# Altium schematic symbol library common.SchLib: 135 symbols
Pins are listed as number, name and electrical type; pins without a type are passive.

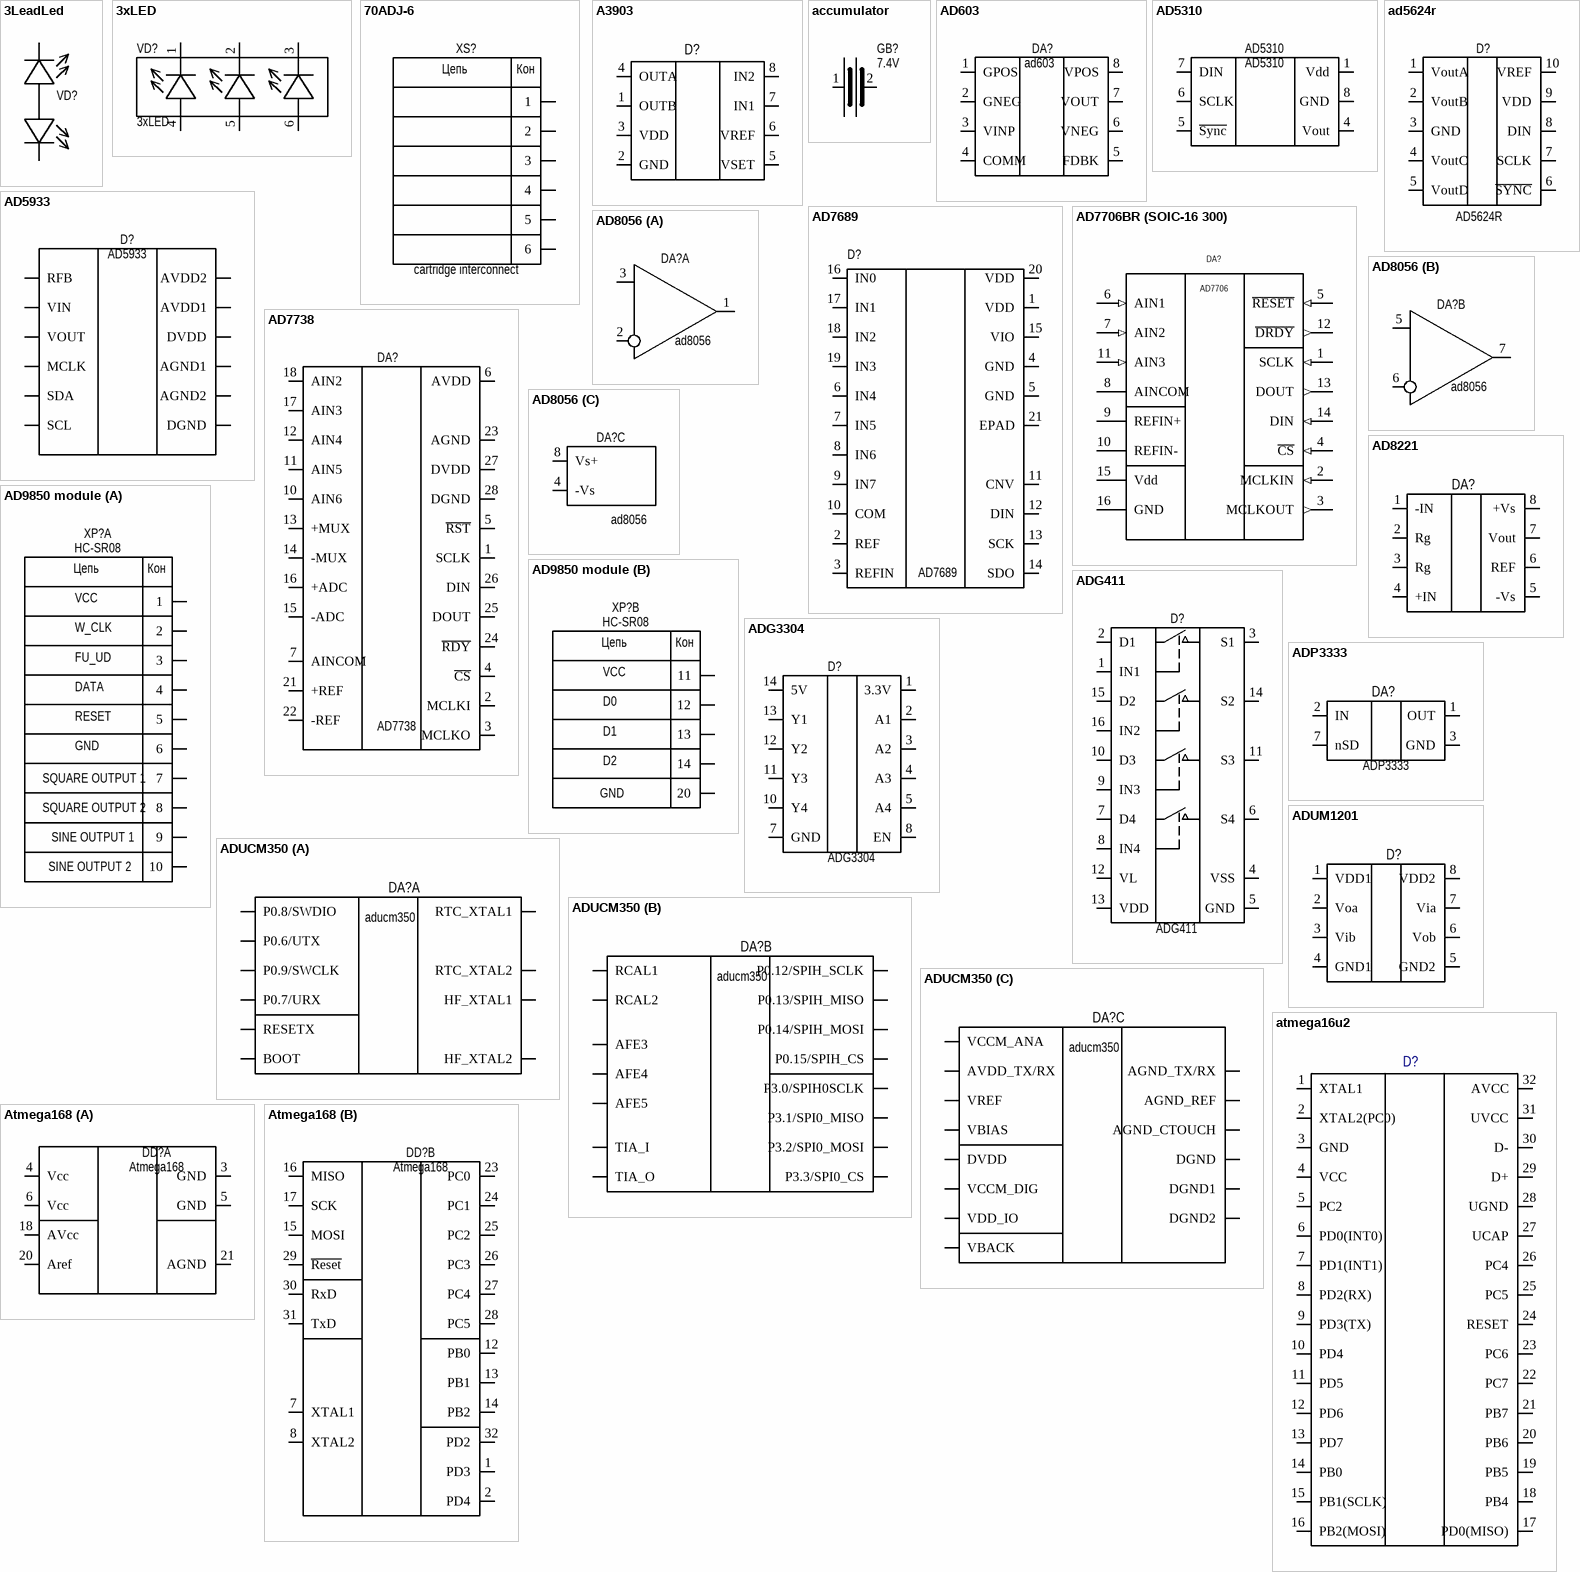
[diagram p0: symbols 3LeadLed to Atmega168]

## 3LeadLed
designator VD?  (value not drawn)
footprint 3-lead light DIODE 2.54 SMD
footprint 3-lead light DIODE 2.54 through
footprint 3-lead light DIODE 2.54 through-R
pins: 1 C1, 2 A, 3 C2

## 3xLED
designator VD?, comment 3хLED
footprint 3xLED
pins: 1, 2, 3, 4, 5, 6

## 70ADJ-6
designator XS?, comment cartridge interconnect
6 pin flat interconnect
footprint 70ADJ-6 (6 pin slider interconnect (smd))
pins: 1, 2, 3, 4, 5, 6
text: Цепь; Кон

## A3903
designator D?  (value not drawn)
footprint DFN8(2X2)
pins: 1 OUTB, 2 GND, 3 VDD, 4 OUTA, 5 VSET, 6 VREF, 7 IN1, 8 IN2

## accumulator
designator GB?, comment 7.4V
footprint LP4022030 (battary 0.4x20x30)
pins: 1 +, 2

## AD603
designator DA?, comment ad603
VCA, +-V supply
footprint SOIC-8 150 (1.3) (SOIC 8 pin 150 mil width 1.3mm pitch)
footprint DIP8
pins: 1 GPOS, 2 GNEG, 3 VINP, 4 COMM, 5 FDBK, 6 VNEG, 7 VOUT, 8 VPOS

## AD5310
designator AD5310
single channel DAC
footprint SOIC-8 118 (.65) (SOIC 8 pin 118 mil width 0.65mm pitch)
pins: 1 Vdd, 4 Vout, 5 ~{Sync}, 6 SCLK, 7 DIN, 8 GND

## ad5624r
designator D?, comment AD5624R
footprint MSOP10
pins: 1 VoutA, 2 VoutB, 3 GND, 4 VoutC, 5 VoutD, 6 ~{SYNC}, 7 SCLK, 8 DIN, 9 VDD, 10 VREF

## AD5933
designator D?
Impedance converter from Analog Devices
footprint SSOP-16 (SSOP 16 pin)
pins: 4 RFB, 5 VIN, 6 VOUT, 8 MCLK, 9 DVDD, 10 AVDD1, 11 AVDD2, 12 DGND, 13 AGND1, 14 AGND2, 15 SDA, 16 SCL

## AD7689
designator D?
footprint QFN-20 (LFCSP_VQ) (QFN-28 with EXPOSED Pad)
pins: 1 VDD, 2 REF, 3 REFIN, 4 GND, 5 GND, 6 IN4, 7 IN5, 8 IN6, 9 IN7, 10 COM, 11 CNV, 12 DIN, 13 SCK, 14 SDO, 15 VIO, 16 IN0, 17 IN1, 18 IN2, 19 IN3, 20 VDD, 21 EPAD

## AD7706BR (SOIC-16 300)
designator DA?  (value not drawn)
Value: *
footprint SOIC-16 300 (1.27)
pins: 1 SCLK (in), 2 MCLKIN (in), 3 MCLKOUT (out), 4 ~{CS} (in), 5 ~{RESET} (in), 6 AIN1 (in), 7 AIN2 (in), 8 AINCOM, 9 REFIN+ (power), 10 REFIN- (power), 11 AIN3 (in), 12 ~{DRDY} (out), 13 DOUT (out), 14 DIN (in), 15 Vdd (power), 16 GND (power)
text: AD7706

## AD7738
designator DA?
footprint TSSOP28 (AD7738)
pins: 1 SCLK, 2 MCLKI, 3 MCLKO, 4 ~{CS}, 5 ~{RST}, 6 AVDD, 7 AINCOM, 10 AIN6, 11 AIN5, 12 AIN4, 13 +MUX, 14 -MUX, 15 -ADC, 16 +ADC, 17 AIN3, 18 AIN2, 21 +REF, 22 -REF, 23 AGND, 24 ~{RDY}, 25 DOUT, 26 DIN, 27 DVDD, 28 DGND

## AD8056
designator DA?, comment ad8056
dual channel opamp, +-V supply
footprint SOIC-8 150 (1.3) (SOIC 8 pin 150 mil width 1.3mm pitch)
footprint DIP8
part A pins: 1 Vout, 2 In-, 3 In+
part B pins: 5 In+, 6 In-, 7 Vout
part C pins: 4 -Vs, 8 Vs+

## AD8221
designator DA?  (value not drawn)
footprint MSOP8
pins: 1 -IN, 2 Rg, 3 Rg, 4 +IN, 5 -Vs, 6 REF, 7 Vout, 8 +Vs

## AD9850 module
designator XP?, comment HC-SR08
DDS ad9850 EImodule
footprint PLS20 for DDS module (10(2.54)_20mm_10(2.54))
part A pins: 1, 2, 3, 4, 5, 6, 7, 8, 9, 10
part B pins: 11, 12, 13, 14, 20
part A text: Цепь; Кон; VCC; W_CLK; FU_UD; DATA; RESET; GND; SQUARE OUTPUT 1; SQUARE OUTPUT 2; SINE OUTPUT 1; SINE OUTPUT 2
part B text: Цепь; Кон; VCC; D0; D1; D2; GND

## ADG411
designator D?
footprint soic 16
pins: 1 IN1, 2 D1, 3 S1, 4 VSS, 5 GND, 6 S4, 7 D4, 8 IN4, 9 IN3, 10 D3, 11 S3, 12 VL, 13 VDD, 14 S2, 15 D2, 16 IN2

## ADG3304
designator D?
footprint TSSOP14 (ADG3304)
pins: 1 3.3V, 2 A1, 3 A2, 4 A3, 5 A4, 7 GND, 8 EN, 10 Y4, 11 Y3, 12 Y2, 13 Y1, 14 5V

## ADP3333
designator DA?
footprint MSOP8
pins: 1 OUT, 2 IN, 3 GND, 7 nSD

## ADUCM350
designator DA?, comment aducm350
footprint BGA120
part A pins: C1 HF_XTAL2, D1 HF_XTAL1, H1 P0.8/SWDIO, H2 P0.9/SWCLK, J1 P0.6/UTX, J2 P0.7/URX, K8 RESETX, N1 RTC_XTAL2, N2 BOOT, P1 RTC_XTAL1
part B pins: F10 P3.3/SPI0_CS, F14 P3.0/SPIH0SCLK, F15 P3.2/SPI0_MOSI, G14 P3.1/SPI0_MISO, M2 P0.15/SPIH_CS, P2 P0.13/SPIH_MISO, P3 P0.14/SPIH_MOSI, P5 RCAL1, P7 AFE4, P11 TIA_I, R3 P0.12/SPIH_SCLK, R5 RCAL2, R7 AFE3, R8 AFE5, R11 TIA_O
part C pins: F7 DGND2, G6 DGND1, H6 VCCM_DIG, H14 DGND, H15 VDD_IO, K1 DVDD, K9 AGND_TX/RX, K10 AGND_REF, M1 VBACK, P4 VCCM_ANA, P10 VBIAS, P14 AGND_CTOUCH, R4 AVDD_TX/RX, R10 VREF

## ADUM1201
designator D?  (value not drawn)
footprint SOIC-8 150 (1.3) (SOIC 8 pin 150 mil width 1.3mm pitch)
pins: 1 VDD1, 2 Voa, 3 Vib, 4 GND1, 5 GND2, 6 Vob, 7 Via, 8 VDD2

## atmega16u2
designator D?  (value not drawn)
footprint TQFP-32
pins: 1 XTAL1, 2 XTAL2(PC0), 3 GND, 4 VCC, 5 PC2, 6 PD0(INT0), 7 PD1(INT1), 8 PD2(RX), 9 PD3(TX), 10 PD4, 11 PD5, 12 PD6, 13 PD7, 14 PB0, 15 PB1(SCLK), 16 PB2(MOSI), 17 PD0(MISO), 18 PB4, 19 PB5, 20 PB6, 21 PB7, 22 PC7, 23 PC6, 24 RESET, 25 PC5, 26 PC4, 27 UCAP, 28 UGND, 29 D+, 30 D-, 31 UVCC, 32 AVCC

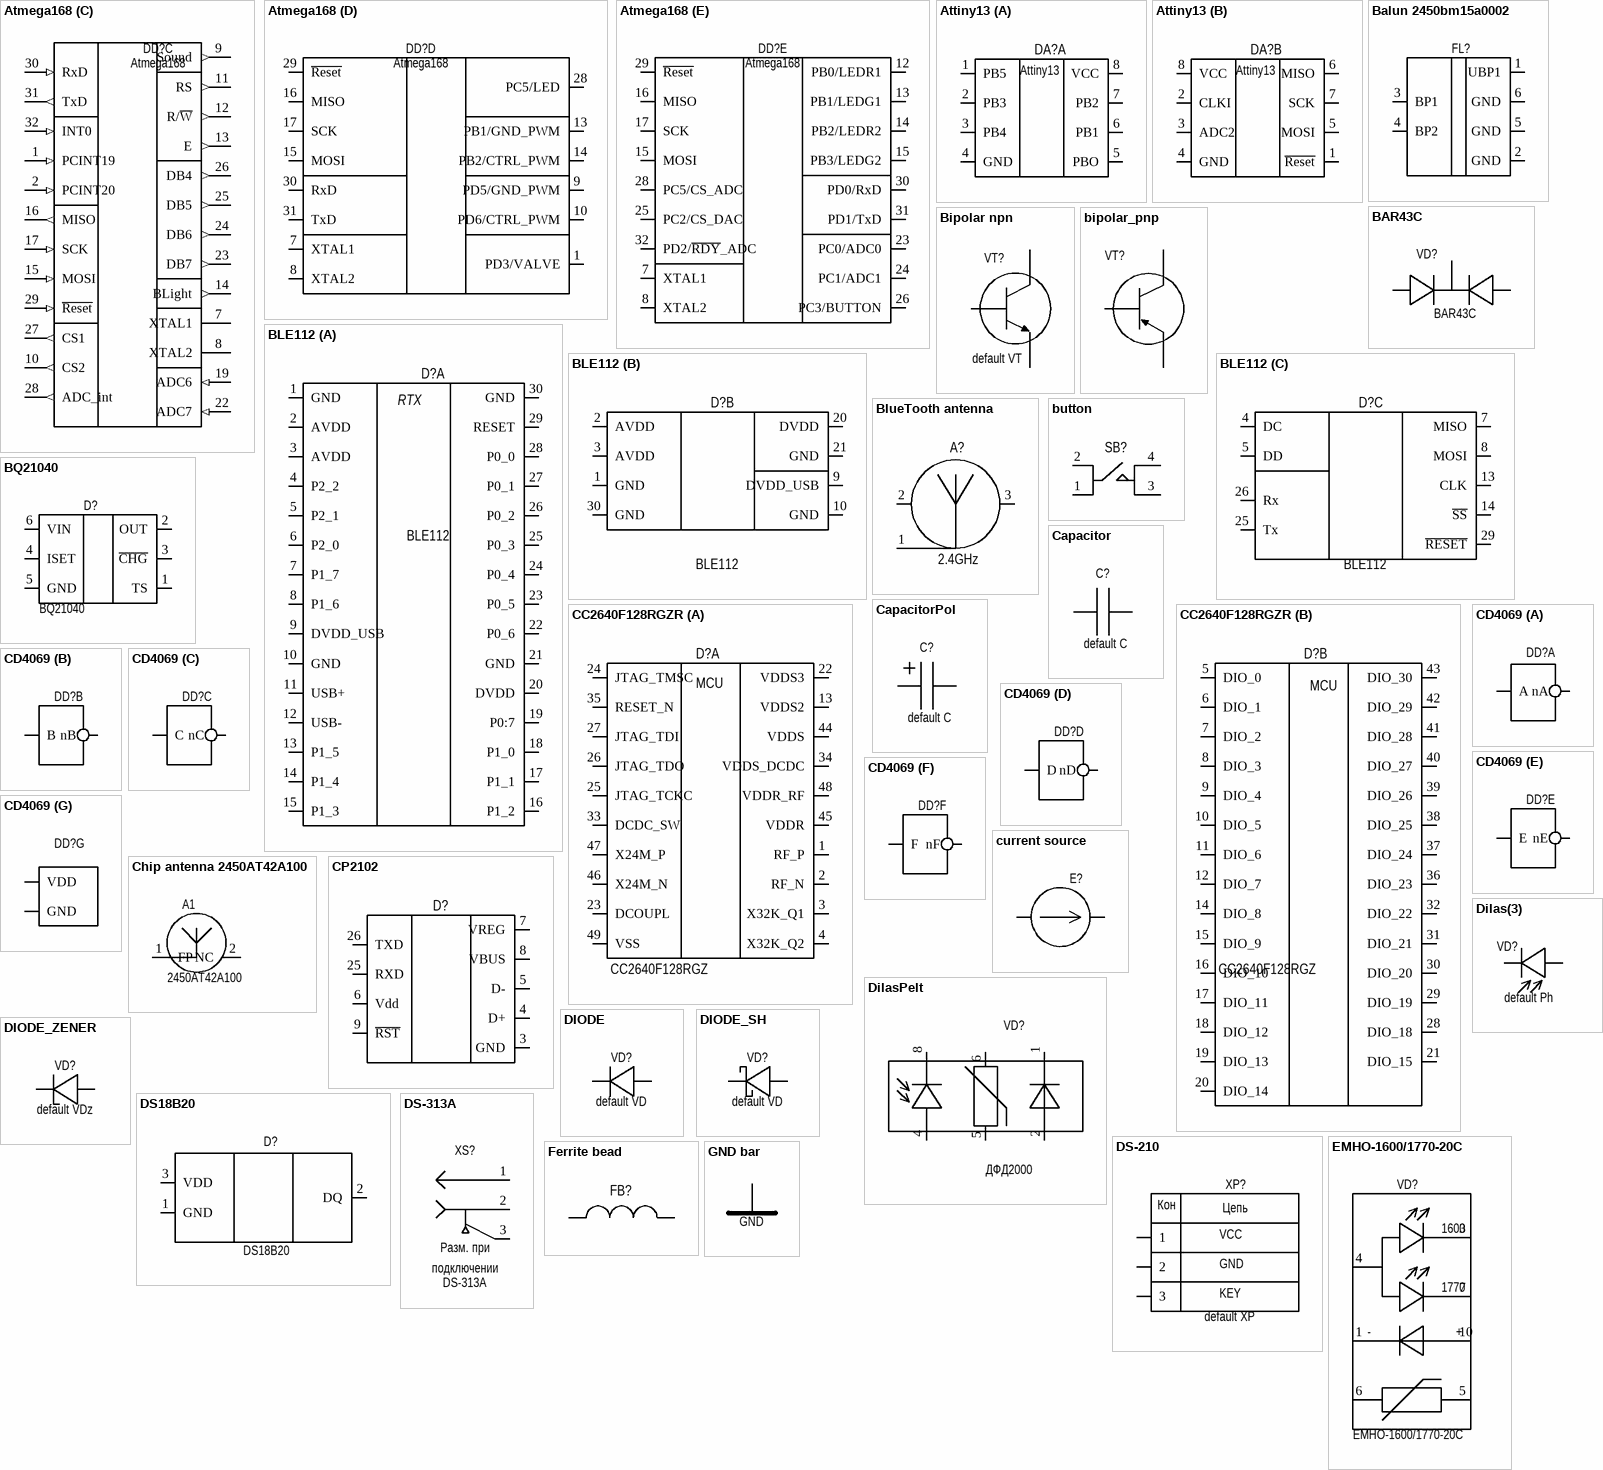
[diagram p1: symbols Atmega168 to GND bar]

## Atmega168
designator DD?
32 pin atmeca controller
footprint TQFP-32
part A pins: 3 GND, 4 Vcc, 5 GND, 6 Vcc, 18 AVcc, 20 Aref, 21 AGND
part B pins: 1 PD3, 2 PD4, 7 XTAL1, 8 XTAL2, 12 PB0, 13 PB1, 14 PB2, 15 MOSI, 16 MISO, 17 SCK, 23 PC0, 24 PC1, 25 PC2, 26 PC3, 27 PC4, 28 PC5, 29 ~{Reset}, 30 RxD, 31 TxD, 32 PD2
part C pins: 1 PCINT19 (in), 2 PCINT20 (in), 7 XTAL1, 8 XTAL2, 9 Sound (out), 10 CS2 (out), 11 RS (out), 12 R/~{W} (out), 13 E (out), 14 BLight (out), 15 MOSI (in), 16 MISO (out), 17 SCK (in), 19 ADC6 (in), 22 ADC7 (in), 23 DB7 (out), 24 DB6 (out), 25 DB5 (out), 26 DB4 (out), 27 CS1 (out), 28 ADC_int (out), 29 ~{Reset} (in), 30 RxD (in), 31 TxD (out), 32 INT0 (in)
part D pins: 1 PD3/VALVE, 7 XTAL1, 8 XTAL2, 9 PD5/GND_PWM, 10 PD6/CTRL_PWM, 13 PB1/GND_PWM, 14 PB2/CTRL_PWM, 15 MOSI, 16 MISO, 17 SCK, 28 PC5/LED, 29 ~{Reset}, 30 RxD, 31 TxD
part E pins: 7 XTAL1, 8 XTAL2, 12 PB0/LEDR1, 13 PB1/LEDG1, 14 PB2/LEDR2, 15 MOSI, 15 PB3/LEDG2, 16 MISO, 17 SCK, 23 PC0/ADC0, 24 PC1/ADC1, 25 PC2/CS_DAC, 26 PC3/BUTTON, 28 PC5/CS_ADC, 29 ~{Reset}, 30 PD0/RxD, 31 PD1/TxD, 32 PD2/~{RDY}_ADC

## Attiny13
designator DA?
footprint SOIC-8 150 (1.3) (SOIC 8 pin 150 mil width 1.3mm pitch)
part A pins: 1 PB5, 2 PB3, 3 PB4, 4 GND, 5 PBO, 6 PB1, 7 PB2, 8 VCC
part B pins: 1 ~{Reset}, 2 CLKI, 3 ADC2, 4 GND, 5 MOSI, 6 MISO, 7 SCK, 8 VCC

## Balun 2450bm15a0002
designator FL?  (value not drawn)
footprint 2450bm15a0002
pins: 1 UBP1, 2 GND, 3 BP1, 4 BP2, 5 GND, 6 GND

## BAR43C
designator VD?
footprint SOT-23
pins: 1, 2, 3

## Bipolar npn
designator VT?, comment default VT
npn bjt
footprint SOT-23
footprint SOT54
pins: 1, 2, 3

## bipolar_pnp
designator VT?  (value not drawn)
footprint SOT-23
footprint SOT54
footprint SOT-23
pins: 1, 2, 3

## BLE112
designator D?
footprint BLE112
part A pins: 1 GND, 2 AVDD, 3 AVDD, 4 P2_2, 5 P2_1, 6 P2_0, 7 P1_7, 8 P1_6, 9 DVDD_USB, 10 GND, 11 USB+, 12 USB-, 13 P1_5, 14 P1_4, 15 P1_3, 16 P1_2, 17 P1_1, 18 P1_0, 19 P0:7, 20 DVDD, 21 GND, 22 P0_6, 23 P0_5, 24 P0_4, 25 P0_3, 26 P0_2, 27 P0_1, 28 P0_0, 29 RESET, 30 GND
part B pins: 1 GND, 2 AVDD, 3 AVDD, 9 DVDD_USB, 10 GND, 20 DVDD, 21 GND, 30 GND
part C pins: 4 DC, 5 DD, 7 MISO, 8 MOSI, 13 CLK, 14 ~{SS}, 25 Tx, 26 Rx, 29 ~{RESET}
part A text: RTX

## BlueTooth antenna
designator A?, comment 2.4GHz
footprint PCB antenna BLE
pins: 1, 2, 3

## BQ21040
designator D?
Battary charger
footprint SOT-23-6L
pins: 1 TS, 2 OUT, 3 ~{CHG}, 4 ISET, 5 GND, 6 VIN

## button
designator SB?  (value not drawn)
footprint button smd
footprint TS-030 4x4x2 smd
pins: 1, 2, 3, 4

## Capacitor
designator C?, comment default C
footprint PLS2 (Footprint not found)
footprint 0805
footprint 0603
pins: 1, 2

## CapacitorPol
designator C?, comment default C
footprint C_Acase
footprint C_Dcase
footprint C_Bcase
footprint C_Ccase
footprint C_Pcase
pins: 1, 2

## CC2640F128RGZR
designator D?, comment CC2640F128RGZ
footprint S_PVQFN_N48_7_7
part A pins: 1 RF_P, 2 RF_N, 3 X32K_Q1, 4 X32K_Q2, 13 VDDS2, 22 VDDS3, 23 DCOUPL, 24 JTAG_TMSC, 25 JTAG_TCKC, 26 JTAG_TDO, 27 JTAG_TDI, 33 DCDC_SW, 34 VDDS_DCDC, 35 RESET_N, 44 VDDS, 45 VDDR, 46 X24M_N, 47 X24M_P, 48 VDDR_RF, 49 VSS
part B pins: 5 DIO_0, 6 DIO_1, 7 DIO_2, 8 DIO_3, 9 DIO_4, 10 DIO_5, 11 DIO_6, 12 DIO_7, 14 DIO_8, 15 DIO_9, 16 DIO_10, 17 DIO_11, 18 DIO_12, 19 DIO_13, 20 DIO_14, 21 DIO_15, 28 DIO_18, 29 DIO_19, 30 DIO_20, 31 DIO_21, 32 DIO_22, 36 DIO_23, 37 DIO_24, 38 DIO_25, 39 DIO_26, 40 DIO_27, 41 DIO_28, 42 DIO_29, 43 DIO_30
part A text: MCU
part B text: MCU

## CD4069
designator DD?  (value not drawn)
invertor
footprint SOIC-14
part A pins: 1 A, 2 nA 
part B pins: 3 B, 4 nB 
part C pins: 5 C, 6 nC 
part D pins: 8 nD , 9 D
part E pins: 10 nE , 11 E
part F pins: 12 nF , 13 F
part G pins: 7 GND, 14 VDD

## Chip antenna 2450AT42A100
designator A1, comment 2450AT42A100
footprint 2450AT42A100
pins: 1 FP, 2 NC

## CP2102
designator D?  (value not drawn)
USB to UART bridge
footprint QFN-28 PP (QFN-28 with Power Pad)
pins: 3 GND, 4 D+, 5 D-, 6 Vdd, 7 VREG, 8 VBUS, 9 ~{RST}, 25 RXD, 26 TXD

## current source
designator E?  (value not drawn)
pins: 1, 2

## Dilas(3)
designator VD?, comment default Ph
footprint TO-18
pins: 1, 2

## DilasPelt
designator VD?, comment ДФД2000
footprint PLD-8
footprint TO-5
pins: 1 N, 2 P, 4 A, 5, 6, 8 C

## DIODE
designator VD?, comment default VD
footprint Diode_through 12_5 (12.5mm through)
footprint Diode_through 10 (10mm through)
footprint sod-123
footprint SOD-323
footprint 0603
footprint 0805
footprint SOD-523
footprint DO-214AC
footprint DIODE MBRM120LT
pins: 1, 2

## DIODE_SH
designator VD?, comment default VD
footprint sod-123
footprint SMA DO 214AC
footprint SOD-323
pins: 1, 2

## DIODE_ZENER
designator VD?, comment default VDz
pins: 0, 1

## DS18B20
designator D?
termometer
footprint TO-92
pins: 1 GND, 2 DQ, 3 VDD

## DS-210
designator XP?, comment default XP
footprint DS-210 2,1x5 (Разъём питания)
pins: 1, 2, 3
text: Кон; Цепь; VCC; GND; KEY

## DS-313A
designator XS?
Value: *
footprint DS-313A
pins: 1, 2, 3
text: Разм. при; подключении

## EMHO-1600/1770-20C
designator VD?
2 walve laser diode
footprint PLS-10
pins: 1 TEC -, 3 1600 Cathode (-), 4 Laser Anode, 5 Thetmistor 2, 6 Thermistor 1, 7 1700 Cathode(-), 10 TEC +
text: 1600; 1770; -; +

## Ferrite bead
designator FB?  (value not drawn)
footprint C_0805
pins: 1, 2

## GND bar
designator GND, comment GND bar (net label required)  (value not drawn)  (graphical)
pins: 1

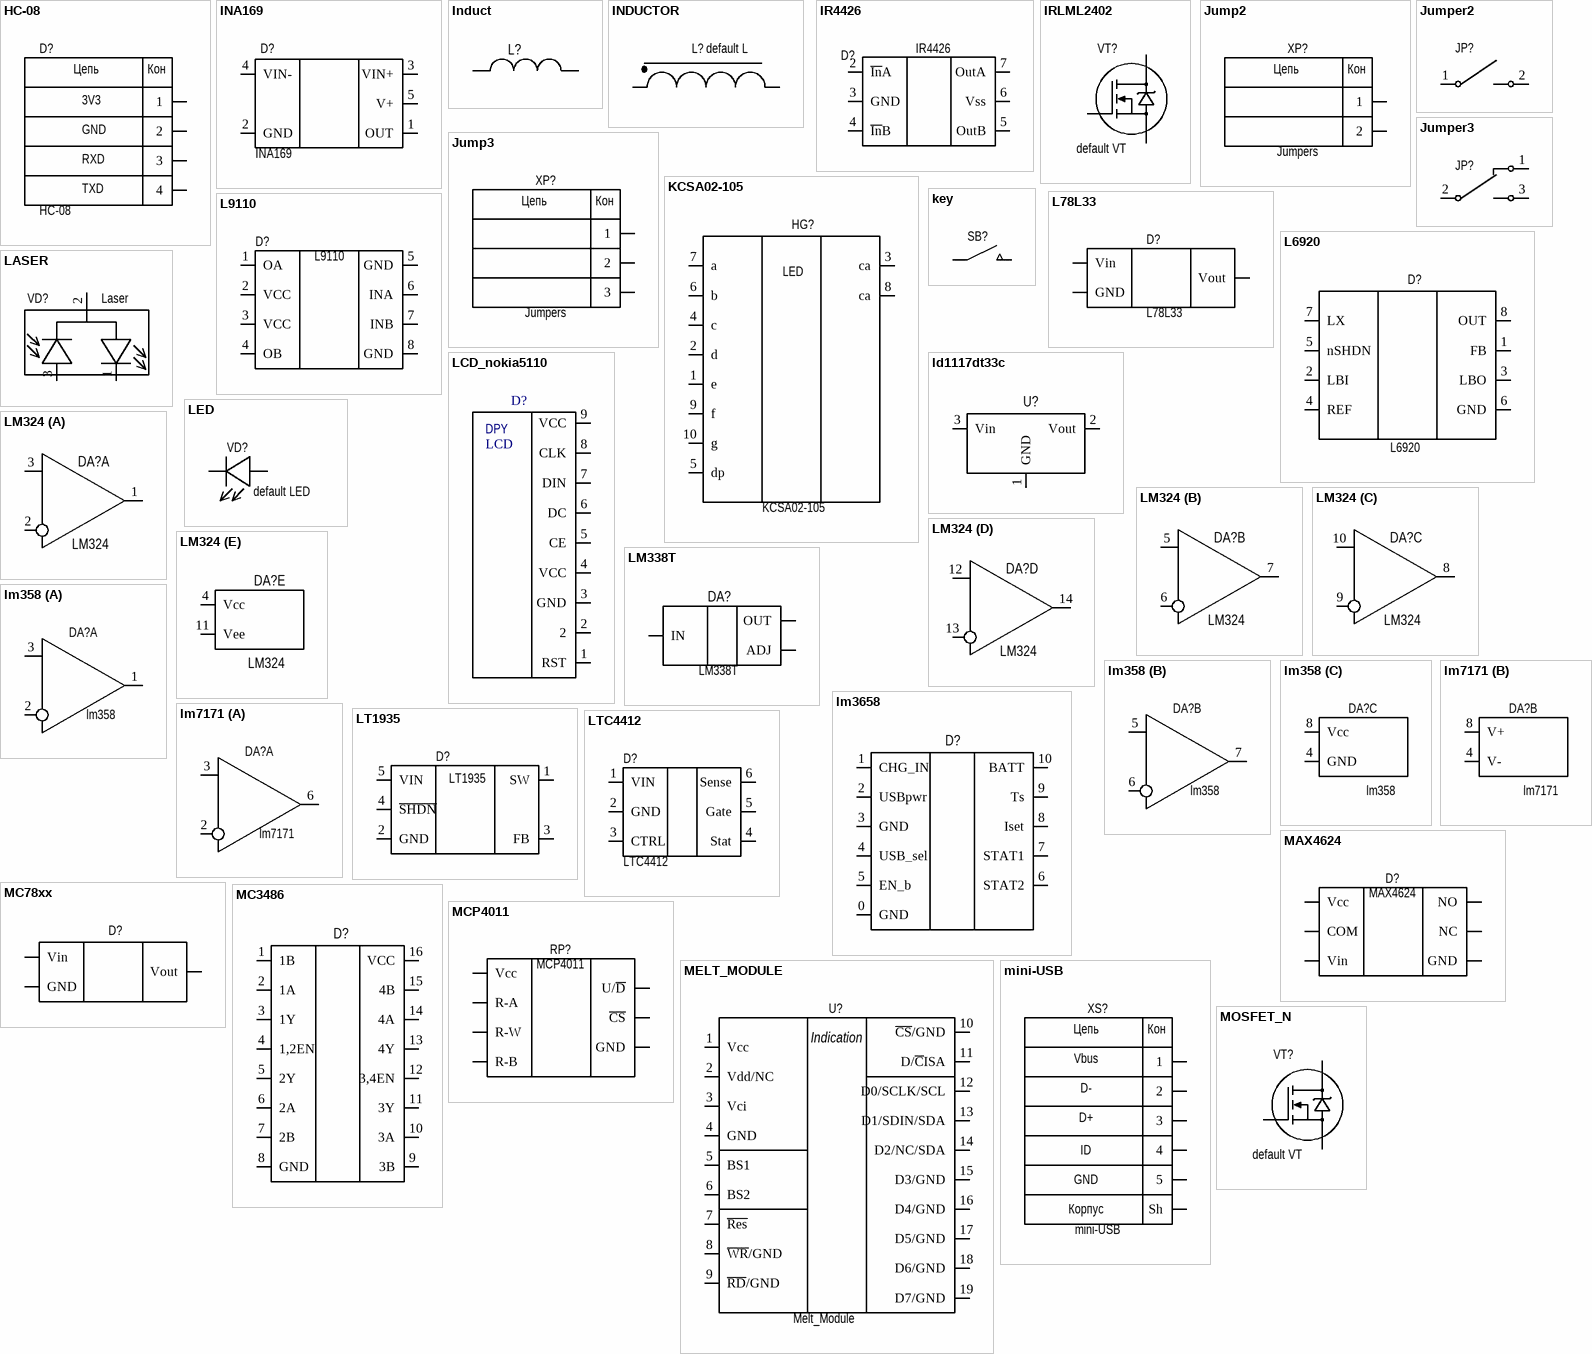
[diagram p2: symbols HC-08 to MOSFET_N]

## HC-08
designator D?
footprint HC-08
pins: 1, 2, 3, 4
text: Цепь; Кон; 3V3; GND; RXD; TXD

## INA169
designator D?
footprint SOT-23-5
pins: 1 OUT, 2 GND, 3 VIN+, 4 VIN-, 5 V+

## Induct
designator L?  (value not drawn)
footprint 0805
footprint 1206
pins: 1, 2

## INDUCTOR
designator L?, comment default L
footprint SRR0603LO (Inductor footprint)
footprint 0805
footprint CDRH4D18C
footprint CDRH4D18
footprint 1212
pins: 1, 2

## IR4426
designator D?
Драйвер нижнего плеча
footprint SOIC-8 150 (1.3) (SOIC 8 pin 150 mil width 1.3mm pitch)
pins: 2 ~{In}A, 3 GND, 4 ~{In}B, 5 OutB, 6 Vss, 7 OutA

## IRLML2402
designator VT?, comment default VT
n-chanel mosfet
pins: 0 gate, 1 source, 2 drain

## Jump2
designator XP?, comment Jumpers
jumper-connected links
footprint PLS2
pins: 1, 2
text: Цепь; Кон

## Jump3
designator XP?, comment Jumpers
jumper-connected links
footprint pls-3 (3 pin pls row)
footprint jumper3-smd
pins: 1, 2, 3
text: Цепь; Кон

## Jumper2
designator JP?, comment jumper  (value not drawn)
footprint 0805
pins: 1, 2

## Jumper3
designator JP?, comment jumper  (value not drawn)
footprint jumper3-smd
pins: 1, 2, 3

## KCSA02-105
designator HG?
indicator_7+1+1
footprint Indicator_7+1(KCSA02-105) (Footprint not found)
pins: 1 e, 2 d, 3 ca, 4 c, 5 dp, 6 b, 7 a, 8 ca, 9 f, 10 g
text: LED

## key
designator SB?, comment default SB  (value not drawn)
footprint button
footprint button smd
pins: 1, 2

## L78L33
designator D?
footprint SOT89
pins: 1 Vout, 2 GND, 3 Vin

## L6920
designator D?
DC-DC
footprint TSSOP8 (Dc-dc L6920)
pins: 1 FB, 2 LBI, 3 LBO, 4 REF, 5 nSHDN, 6 GND, 7 LX, 8 OUT

## L9110
designator D?
footprint SOIC-8 150 (1.3) (SOIC 8 pin 150 mil width 1.3mm pitch)
pins: 1 OA, 2 VCC, 3 VCC, 4 OB, 5 GND, 6 INA, 7 INB, 8 GND

## LASER
designator VD?, comment Laser
footprint pls-3 (3 pin pls row)
footprint TO(SOT-148) (LTD-1600-30-SM)
footprint TO-18
pins: 1 CTRL, 2 PWR, 3 BACK

## LCD_nokia5110
designator D?  (value not drawn)
footprint LCD_nokia5110
pins: 1 RST, 2, 3 GND, 4 VCC, 5 CE, 6 DC, 7 DIN, 8 CLK, 9 VCC
text: DPY; LCD

## ld1117dt33c
designator U?  (value not drawn)
footprint SOT-223
pins: 1 GND, 2 Vout, 3 Vin

## LED
designator VD?, comment default LED
footprint Diode_0805 (Diode pattern 0805 (leds, etc))
footprint LED
footprint TO-18
footprint LED0805 (LED pattern 0805)
footprint TO-18no3D
pins: 1, 2

## LM324
designator DA?
footprint SOIC-14
part A pins: 1 Vout, 2 In-, 3 In+
part B pins: 5 In+, 6 In-, 7 out
part C pins: 8 Vout, 9 In-, 10 In+
part D pins: 12 In+, 13 In-, 14 Vout
part E pins: 4 Vcc, 11 Vee

## LM338T
designator DA?
footprint TO-92 (Footprint not found)
pins: 1 ADJ, 2 IN, 3 OUT

## lm358
designator DA?
dual channel general puprose opamp
footprint SOIC-8 150 (1.3) (SOIC 8 pin 150 mil width 1.3mm pitch)
footprint DIP8
part A pins: 1 Vout, 2 In-, 3 In+
part B pins: 5 In+, 6 In-, 7 Vout
part C pins: 4 GND, 8 Vcc

## lm3658
designator D?  (value not drawn)
footprint WSON 10
pins: 0 GND, 1 CHG_IN, 2 USBpwr, 3 GND, 4 USB_sel, 5 EN_b, 6 STAT2, 7 STAT1, 8 Iset, 9 Ts, 10 BATT

## lm7171
designator DA?
high-speed ampl
footprint SOIC-8 150 (1.3) (SOIC 8 pin 150 mil width 1.3mm pitch)
footprint DIP8
part A pins: 2 In-, 3 In+, 6 Vout
part B pins: 4 V-, 8 V+

## LT1935
designator D?
DC-DC Boost
footprint SOT-23-5
pins: 1 SW, 2 GND, 3 FB, 4 ~{SHDN}, 5 VIN

## LTC4412
designator D?
Power switchover
footprint SOT-23-6L
pins: 1 VIN, 2 GND, 3 CTRL, 4 Stat, 5 Gate, 6 Sense

## MAX4624
designator D?
analog switch SPDT
footprint SOT-23-6L
pins: 1 Vin, 2 Vcc, 3 GND, 4 NC, 5 COM, 6 NO

## MC78xx
designator D?, comment default 78xx  (value not drawn)
linear voltage regulator
footprint D-PAK (TO-252)
footprint SOT89
pins: 1 Vin, 2 GND, 3 Vout

## MC3486
designator D?  (value not drawn)
footprint soic 16
pins: 1 1B, 2 1A, 3 1Y, 4 1,2EN, 5 2Y, 6 2A, 7 2B, 8 GND, 9 3B, 10 3A, 11 3Y, 12 3,4EN, 13 4Y, 14 4A, 15 4B, 16 VCC

## MCP4011
designator RP?
Digital Potentiometer
footprint SOIC-8 150 (1.3) (SOIC 8 pin 150 mil width 1.3mm pitch)
pins: 1 Vcc, 2 GND, 3 R-A, 4 R-W, 5 ~{CS}, 6 R-B, 8 U/~{D}

## MELT_MODULE
designator U?, comment Melt_Module
footprint Screen module MELT SMD (SMD LCD module)
pins: 1 Vcc, 2 Vdd/NC, 3 Vci, 4 GND, 5 BS1, 6 BS2, 7 ~{Res}, 8 ~{WR}/GND, 9 ~{RD}/GND, 10 ~{CS}/GND, 11 D/~{C}ISA, 12 D0/SCLK/SCL, 13 D1/SDIN/SDA, 14 D2/NC/SDA, 15 D3/GND, 16 D4/GND, 17 D5/GND, 18 D6/GND, 19 D7/GND
text: Indication

## mini-USB
designator XS?
mini-USB 2 female
footprint mini USB (mini USB 2)
pins: 1, 2, 3, 4, 5, 6 Sh
text: Цепь; Кон; Vbus; D-; D+; ID; GND; Корпус

## MOSFET_N
designator VT?, comment default VT
n-chanel mosfet
footprint SOT-223
footprint SOT-23
pins: 1, 2, 3

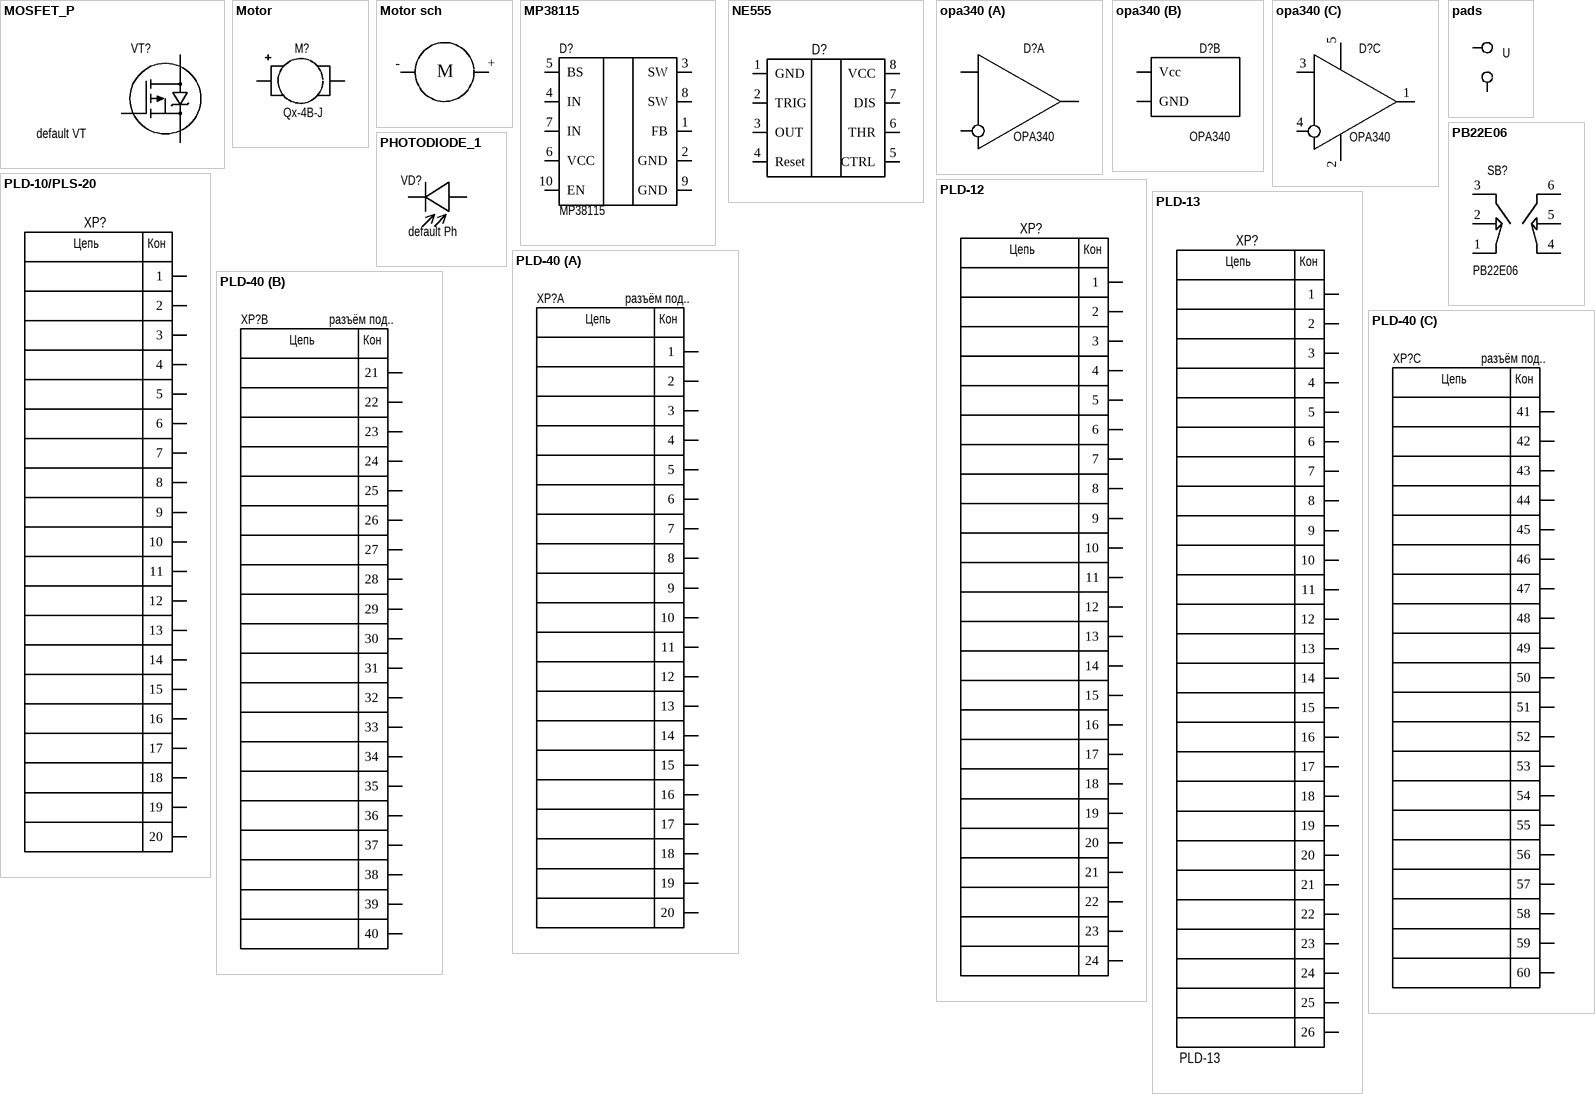
[diagram p3: symbols MOSFET_P to PLD-40]

## MOSFET_P
designator VT?, comment default VT
n-chanel mosfet
footprint SOT-223
footprint SOT-23
pins: 1, 2, 3

## Motor
designator M?, comment Qx-4B-J
footprint QX-4B-J-3V
pins: 1 +, 2 -

## Motor sch
designator *  (value not drawn)
pins: +, -
text: M

## MP38115
designator D?
footprint QFN-10 (QFN-10 with EXPOSED Pad)
pins: 1 FB, 2 GND, 3 SW, 4 IN, 5 BS, 6 VCC, 7 IN, 8 SW, 9 GND, 10 EN

## NE555
designator D?, comment default D  (value not drawn)
single bipolar timer
footprint DIP8
footprint SOIC-8 150 (1.27)
footprint SOIC-8 150 (1.3) (SOIC 8 pin 150 mil width 1.3mm pitch)
pins: 1 GND, 2 TRIG, 3 OUT, 4 Reset, 5 CTRL, 6 THR, 7 DIS, 8 VCC

## opa340
designator D?, comment OPA340
rail-to-rail 5MHz opamp
footprint SOT-23-5
part A pins: 1 Vout, 3 In+, 4 In-
part B pins: 2 GND, 5 Vcc
part C pins: 1 Vout, 2 GND, 3 In+, 4 In-, 5 VDD

## pads
designator *, comment U
pins: 1, 2

## PB22E06
designator SB?
pins: 1, 2, 3, 4, 5, 6

## PHOTODIODE_1
designator VD?, comment default Ph
footprint TO-5
footprint 1206
footprint 0603
footprint TO-18
pins: 1, 2

## PLD-10/PLS-20
designator XP?  (value not drawn)
footprint PLD-10
pins: 1, 2, 3, 4, 5, 6, 7, 8, 9, 10, 11, 12, 13, 14, 15, 16, 17, 18, 19, 20
text: Цепь; Кон

## PLD-12
designator XP?  (value not drawn)
footprint PLD-12
pins: 1, 2, 3, 4, 5, 6, 7, 8, 9, 10, 11, 12, 13, 14, 15, 16, 17, 18, 19, 20, 21, 22, 23, 24
text: Цепь; Кон

## PLD-13
designator XP?
footprint PLD-13
pins: 1, 2, 3, 4, 5, 6, 7, 8, 9, 10, 11, 12, 13, 14, 15, 16, 17, 18, 19, 20, 21, 22, 23, 24, 25, 26
text: Цепь; Кон

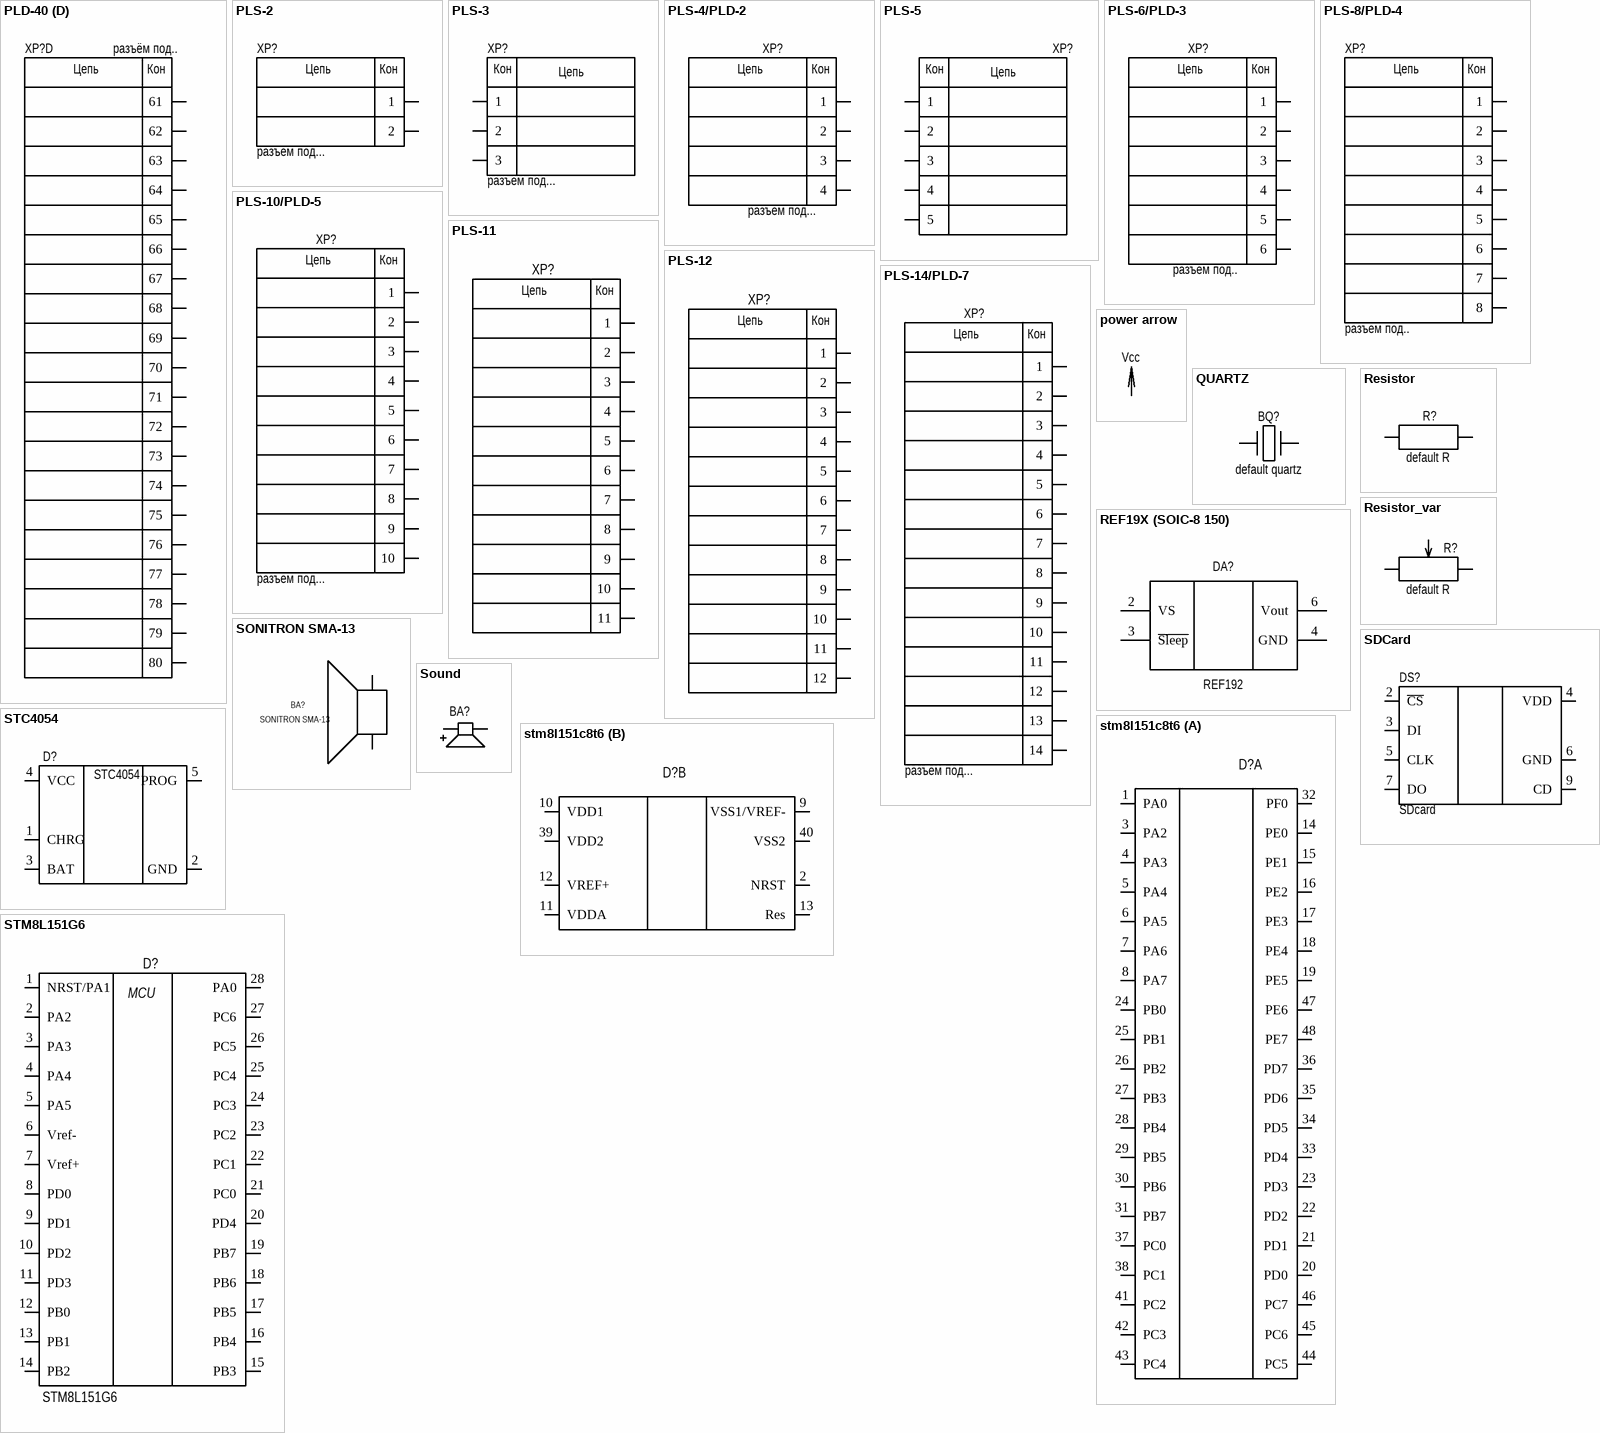
[diagram p4: symbols PLD-40 to STM8L151G6]

## PLD-40
designator XP?, comment разъём под..
footprint PLD-40UP (boards connector)
part A pins: 1, 2, 3, 4, 5, 6, 7, 8, 9, 10, 11, 12, 13, 14, 15, 16, 17, 18, 19, 20
part B pins: 21, 22, 23, 24, 25, 26, 27, 28, 29, 30, 31, 32, 33, 34, 35, 36, 37, 38, 39, 40
part C pins: 41, 42, 43, 44, 45, 46, 47, 48, 49, 50, 51, 52, 53, 54, 55, 56, 57, 58, 59, 60
part D pins: 61, 62, 63, 64, 65, 66, 67, 68, 69, 70, 71, 72, 73, 74, 75, 76, 77, 78, 79, 80
part A text: Цепь; Кон
part B text: Цепь; Кон
part C text: Цепь; Кон
part D text: Цепь; Кон

## PLS-2
designator XP?, comment разъем под...
footprint PLS-2R
footprint PLS-2
footprint PLS-2UP (for PLS-2)
footprint CR2032 Holder
footprint CR2032 Holder (no mount)
footprint PL331223V (battary)
footprint LP4022030 (battary 0.4x20x30)
pins: 1, 2
text: Цепь; Кон

## PLS-3
designator XP?, comment разъем под...
footprint pls-3 (3 pin pls row)
footprint PLS-3UP (for PLS-3)
footprint PLS-3UPsmall (for PLS-3)
pins: 1, 2, 3
text: Кон; Цепь

## PLS-4/PLD-2
designator XP?, comment разъем под...
footprint PLS-4
footprint PLS-4R
footprint PLD-2
footprint PLS-4noSilk
footprint CI1104S00
footprint PLS-4UP-small (for PLS-4)
footprint PLS-4UP (4)
footprint PLS-4UP (2x3) (for pls-4)
footprint PLS-4 (no 3d)
pins: 1, 2, 3, 4
text: Цепь; Кон

## PLS-5
designator XP?, comment разъем ..  (value not drawn)
footprint 5-leads for Keypad (foe foil-keypad)
footprint 5 leads foe Cable
footprint 5 leads for Cable (moved)
footprint 5 leads for Cable only 3d (moved)
footprint 5LEADS Laser
footprint PLS-5
footprint PLS(D)-5
pins: 1, 2, 3, 4, 5
text: Кон; Цепь

## PLS-6/PLD-3
designator XP?, comment разъем под..
footprint PLS-6
footprint PLS-6R
footprint pld-3 (3 pin pls row)
footprint PLD-3UP (for PLD-3)
footprint 6-leads for Keypad (foe foil-keypad)
footprint PLL-6
footprint PLS-2-6
pins: 1, 2, 3, 4, 5, 6
text: Цепь; Кон

## PLS-8/PLD-4
designator XP?, comment разъем под..
footprint PLD-4
footprint PLD-4UP (for PLD-4)
footprint 08fmz-st (for foil-keypad)
footprint PLD-2-4
footprint PLS-8
pins: 1, 2, 3, 4, 5, 6, 7, 8
text: Цепь; Кон

## PLS-10/PLD-5
designator XP?, comment разъем под...
footprint PLS-10
footprint PLD-5UP
footprint PLS-10noSilk
footprint PLD-5
footprint PLD2-5
footprint PLLD-1.27-10UP (boards connector)
pins: 1, 2, 3, 4, 5, 6, 7, 8, 9, 10
text: Цепь; Кон

## PLS-11
designator XP?  (value not drawn)
PLS-11
footprint PLS-11
pins: 1, 2, 3, 4, 5, 6, 7, 8, 9, 10, 11
text: Цепь; Кон

## PLS-12
designator XP?  (value not drawn)
PLS-12
footprint PLS-12
footprint PLS-12n3d
pins: 1, 2, 3, 4, 5, 6, 7, 8, 9, 10, 11, 12
text: Цепь; Кон

## PLS-14/PLD-7
designator XP?, comment разъем под...
footprint PLD-7
pins: 1, 2, 3, 4, 5, 6, 7, 8, 9, 10, 11, 12, 13, 14
text: Цепь; Кон

## power arrow
designator Vcc, comment power arrow (net label required)  (value not drawn)  (graphical)
pins: 1

## QUARTZ
designator BQ?, comment default quartz
footprint Quartz 12.3x4.5x4.2 (SMD quartz resonator)
footprint quartz - through (SMD quartz resonator)
footprint QUARTZ_watch (32.768 resonator package)
pins: 1, 2

## REF19X (SOIC-8 150)
designator DA?, comment REF192
Value: *
footprint SOIC-8 150 (1.27)
footprint SOIC-8 150 (1.3) (SOIC 8 pin 150 mil width 1.3mm pitch)
pins: 1 hidden, 2 VS, 3 ~{Sleep}, 4 GND, 5 hidden, 6 Vout, 7 hidden, 8 hidden

## Resistor
designator R?, comment default R
footprint Resistor_through (10mm through)
footprint 0402
footprint Resistor_through_pow (30mm through)
footprint 1206
footprint 0603
footprint 0805
pins: 1, 2

## Resistor_var
designator R?, comment default R
variable resistor
footprint R_var_pv36 (potentiometer type pv36)
pins: 1, 2, 3

## SDCard
designator DS?, comment SDcard
footprint 112J-TDAR-R01 (Разъём для SD карт)
pins: 2 ~{CS}, 3 DI, 4 VDD, 5 CLK, 6 GND, 7 DO, 9 CD

## SONITRON SMA-13
designator BA?
Value: *
footprint SONITRON SMA-13
pins: 1, 2

## Sound
designator BA?  (value not drawn)
footprint JL World HC0903A (Излучатель звука (JL World HC0903A))
pins: 1 +, 2 -

## STC4054
designator D?
Battery charger
footprint SOT-23-5
pins: 1 CHRG, 2 GND, 3 BAT, 4 VCC, 5 PROG

## stm8l151c8t6
designator D?  (value not drawn)
footprint LQFP48
part A pins: 1 PA0, 3 PA2, 4 PA3, 5 PA4, 6 PA5, 7 PA6, 8 PA7, 14 PE0, 15 PE1, 16 PE2, 17 PE3, 18 PE4, 19 PE5, 20 PD0, 21 PD1, 22 PD2, 23 PD3, 24 PB0, 25 PB1, 26 PB2, 27 PB3, 28 PB4, 29 PB5, 30 PB6, 31 PB7, 32 PF0, 33 PD4, 34 PD5, 35 PD6, 36 PD7, 37 PC0, 38 PC1, 41 PC2, 42 PC3, 43 PC4, 44 PC5, 45 PC6, 46 PC7, 47 PE6, 48 PE7
part B pins: 2 NRST, 9 VSS1/VREF-, 10 VDD1, 11 VDDA, 12 VREF+, 13 Res, 39 VDD2, 40 VSS2

## STM8L151G6
designator D?
footprint UFQFPN28
pins: 1 NRST/PA1, 2 PA2, 3 PA3, 4 PA4, 5 PA5, 6 Vref-, 7 Vref+, 8 PD0, 9 PD1, 10 PD2, 11 PD3, 12 PB0, 13 PB1, 14 PB2, 15 PB3, 16 PB4, 17 PB5, 18 PB6, 19 PB7, 20 PD4, 21 PC0, 22 PC1, 23 PC2, 24 PC3, 25 PC4, 26 PC5, 27 PC6, 28 PA0
text: MCU

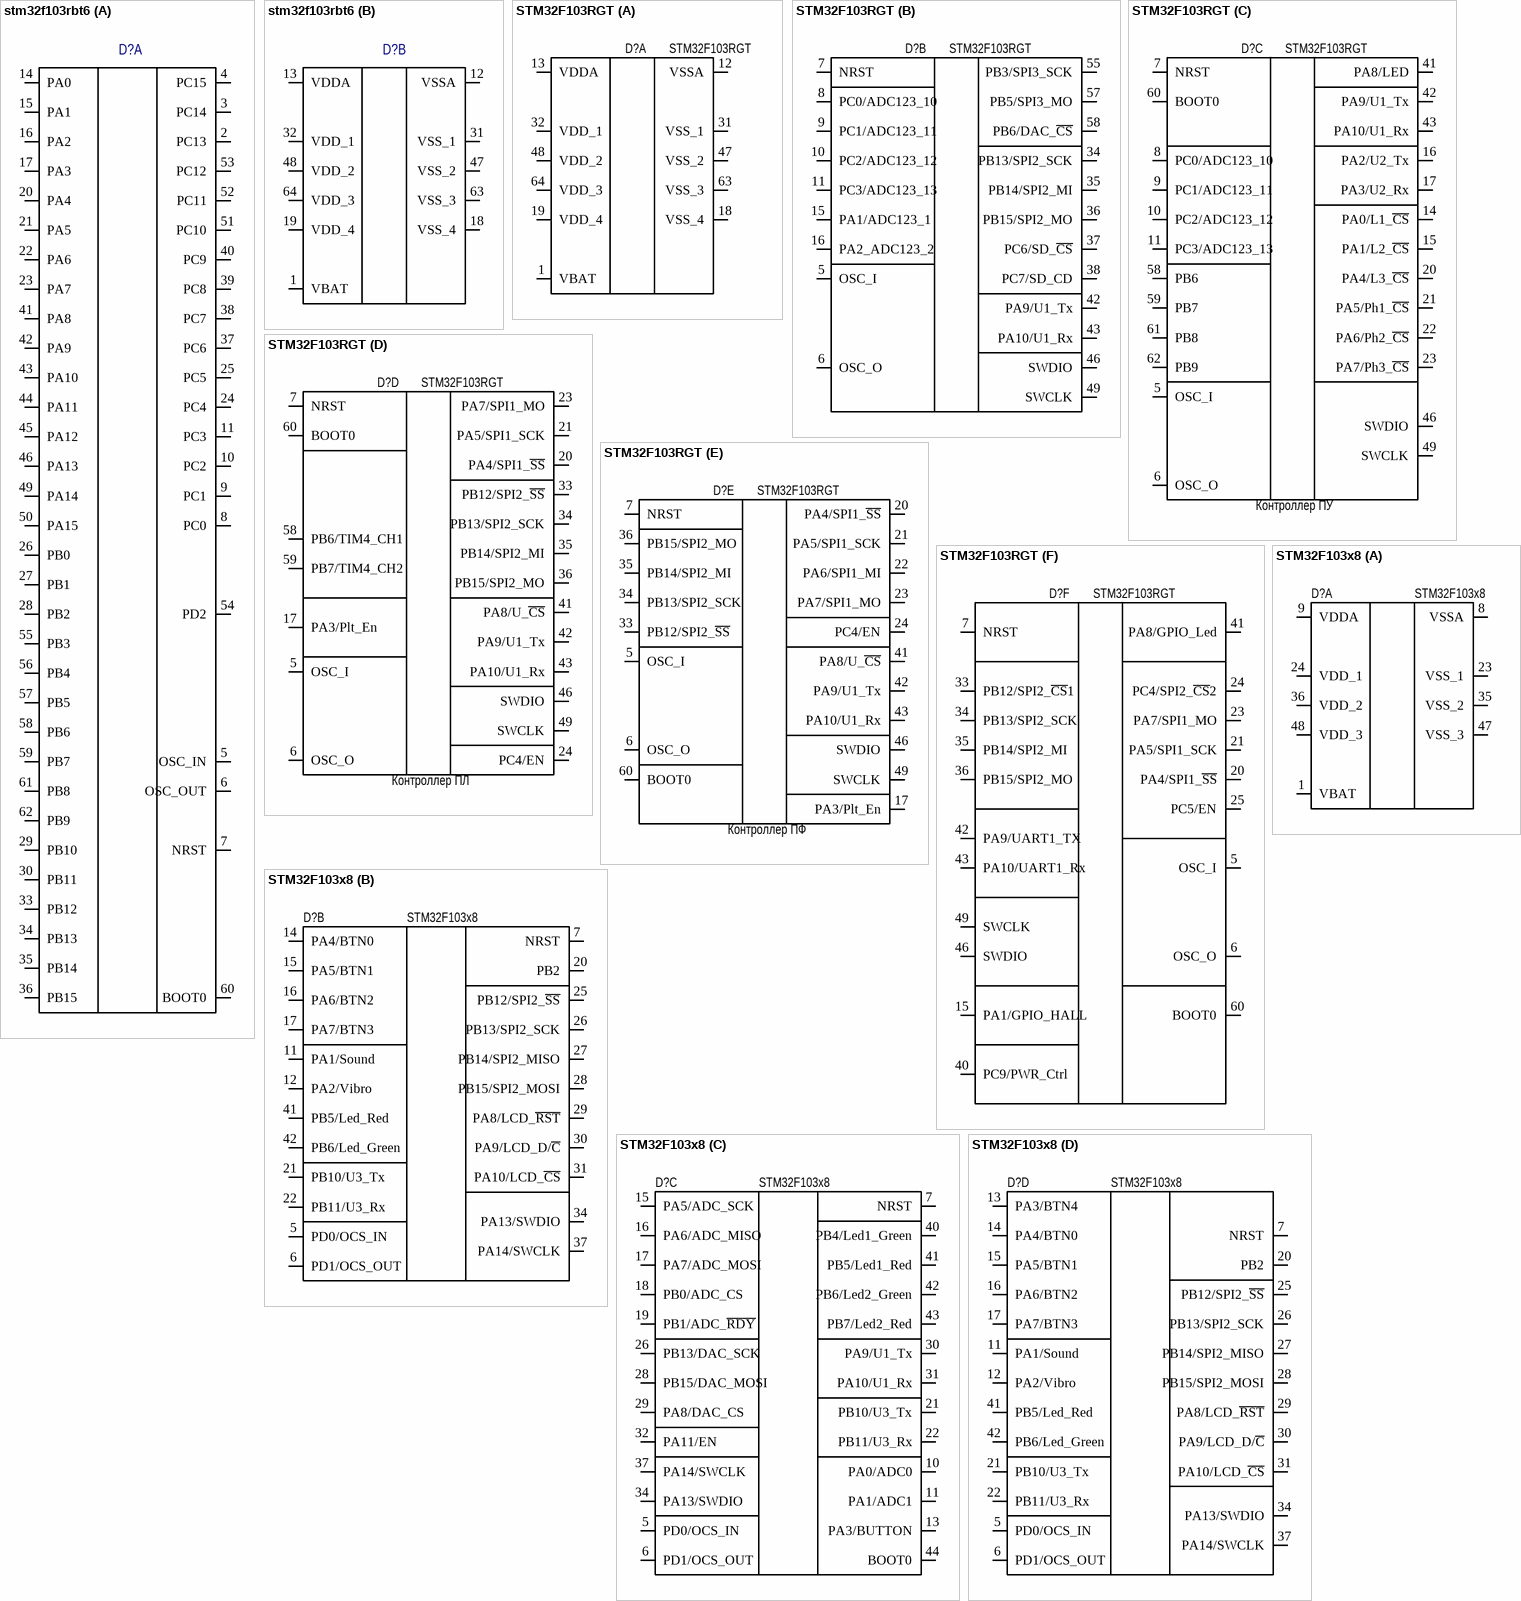
[diagram p5: symbols stm32f103rbt6 to STM32F103x8]

## stm32f103rbt6
designator D?  (value not drawn)
footprint LQFP-64
part A pins: 2 PC13, 3 PC14, 4 PC15, 5 OSC_IN, 6 OSC_OUT, 7 NRST, 8 PC0, 9 PC1, 10 PC2, 11 PC3, 14 PA0, 15 PA1, 16 PA2, 17 PA3, 20 PA4, 21 PA5, 22 PA6, 23 PA7, 24 PC4, 25 PC5, 26 PB0, 27 PB1, 28 PB2, 29 PB10, 30 PB11, 33 PB12, 34 PB13, 35 PB14, 36 PB15, 37 PC6, 38 PC7, 39 PC8, 40 PC9, 41 PA8, 42 PA9, 43 PA10, 44 PA11, 45 PA12, 46 PA13, 49 PA14, 50 PA15, 51 PC10, 52 PC11, 53 PC12, 54 PD2, 55 PB3, 56 PB4, 57 PB5, 58 PB6, 59 PB7, 60 BOOT0, 61 PB8, 62 PB9
part B pins: 1 VBAT, 12 VSSA, 13 VDDA, 18 VSS_4, 19 VDD_4, 31 VSS_1, 32 VDD_1, 47 VSS_2, 48 VDD_2, 63 VSS_3, 64 VDD_3

## STM32F103RGT
designator D?
footprint LQFP-64
part A pins: 1 VBAT, 12 VSSA, 13 VDDA, 18 VSS_4, 19 VDD_4, 31 VSS_1, 32 VDD_1, 47 VSS_2, 48 VDD_2, 63 VSS_3, 64 VDD_3
part B pins: 5 OSC_I, 6 OSC_O, 7 NRST, 8 PC0/ADC123_10, 9 PC1/ADC123_11, 10 PC2/ADC123_12, 11 PC3/ADC123_13, 15 PA1/ADC123_1, 16 PA2_ADC123_2, 34 PB13/SPI2_SCK, 35 PB14/SPI2_MI, 36 PB15/SPI2_MO, 37 PC6/SD_~{CS}, 38 PC7/SD_CD, 42 PA9/U1_Tx, 43 PA10/U1_Rx, 46 SWDIO, 49 SWCLK, 55 PB3/SPI3_SCK, 57 PB5/SPI3_MO, 58 PB6/DAC_~{CS}
part C pins: 5 OSC_I, 6 OSC_O, 7 NRST, 8 PC0/ADC123_10, 9 PC1/ADC123_11, 10 PC2/ADC123_12, 11 PC3/ADC123_13, 14 PA0/L1_~{CS}, 15 PA1/L2_~{CS}, 16 PA2/U2_Tx, 17 PA3/U2_Rx, 20 PA4/L3_~{CS}, 21 PA5/Ph1_~{CS}, 22 PA6/Ph2_~{CS}, 23 PA7/Ph3_~{CS}, 41 PA8/LED, 42 PA9/U1_Tx, 43 PA10/U1_Rx, 46 SWDIO, 49 SWCLK, 58 PB6, 59 PB7, 60 BOOT0, 61 PB8, 62 PB9
part D pins: 5 OSC_I, 6 OSC_O, 7 NRST, 17 PA3/Plt_En, 20 PA4/SPI1_~{SS}, 21 PA5/SPI1_SCK, 23 PA7/SPI1_MO, 24 PC4/EN, 33 PB12/SPI2_~{SS}, 34 PB13/SPI2_SCK, 35 PB14/SPI2_MI, 36 PB15/SPI2_MO, 41 PA8/U_~{CS}, 42 PA9/U1_Tx, 43 PA10/U1_Rx, 46 SWDIO, 49 SWCLK, 58 PB6/TIM4_CH1, 59 PB7/TIM4_CH2, 60 BOOT0
part E pins: 5 OSC_I, 6 OSC_O, 7 NRST, 17 PA3/Plt_En, 20 PA4/SPI1_~{SS}, 21 PA5/SPI1_SCK, 22 PA6/SPI1_MI, 23 PA7/SPI1_MO, 24 PC4/EN, 33 PB12/SPI2_~{SS}, 34 PB13/SPI2_SCK, 35 PB14/SPI2_MI, 36 PB15/SPI2_MO, 41 PA8/U_~{CS}, 42 PA9/U1_Tx, 43 PA10/U1_Rx, 46 SWDIO, 49 SWCLK, 60 BOOT0
part F pins: 5 OSC_I, 6 OSC_O, 7 NRST, 15 PA1/GPIO_HALL, 20 PA4/SPI1_~{SS}, 21 PA5/SPI1_SCK, 23 PA7/SPI1_MO, 24 PC4/SPI2_~{CS}2, 25 PC5/EN, 33 PB12/SPI2_~{CS}1, 34 PB13/SPI2_SCK, 35 PB14/SPI2_MI, 36 PB15/SPI2_MO, 40 PC9/PWR_Ctrl, 41 PA8/GPIO_Led, 42 PA9/UART1_TX, 43 PA10/UART1_Rx, 46 SWDIO, 49 SWCLK, 60 BOOT0
part C text: Контроллер ПУ
part D text: Контроллер ПЛ
part E text: Контроллер ПФ

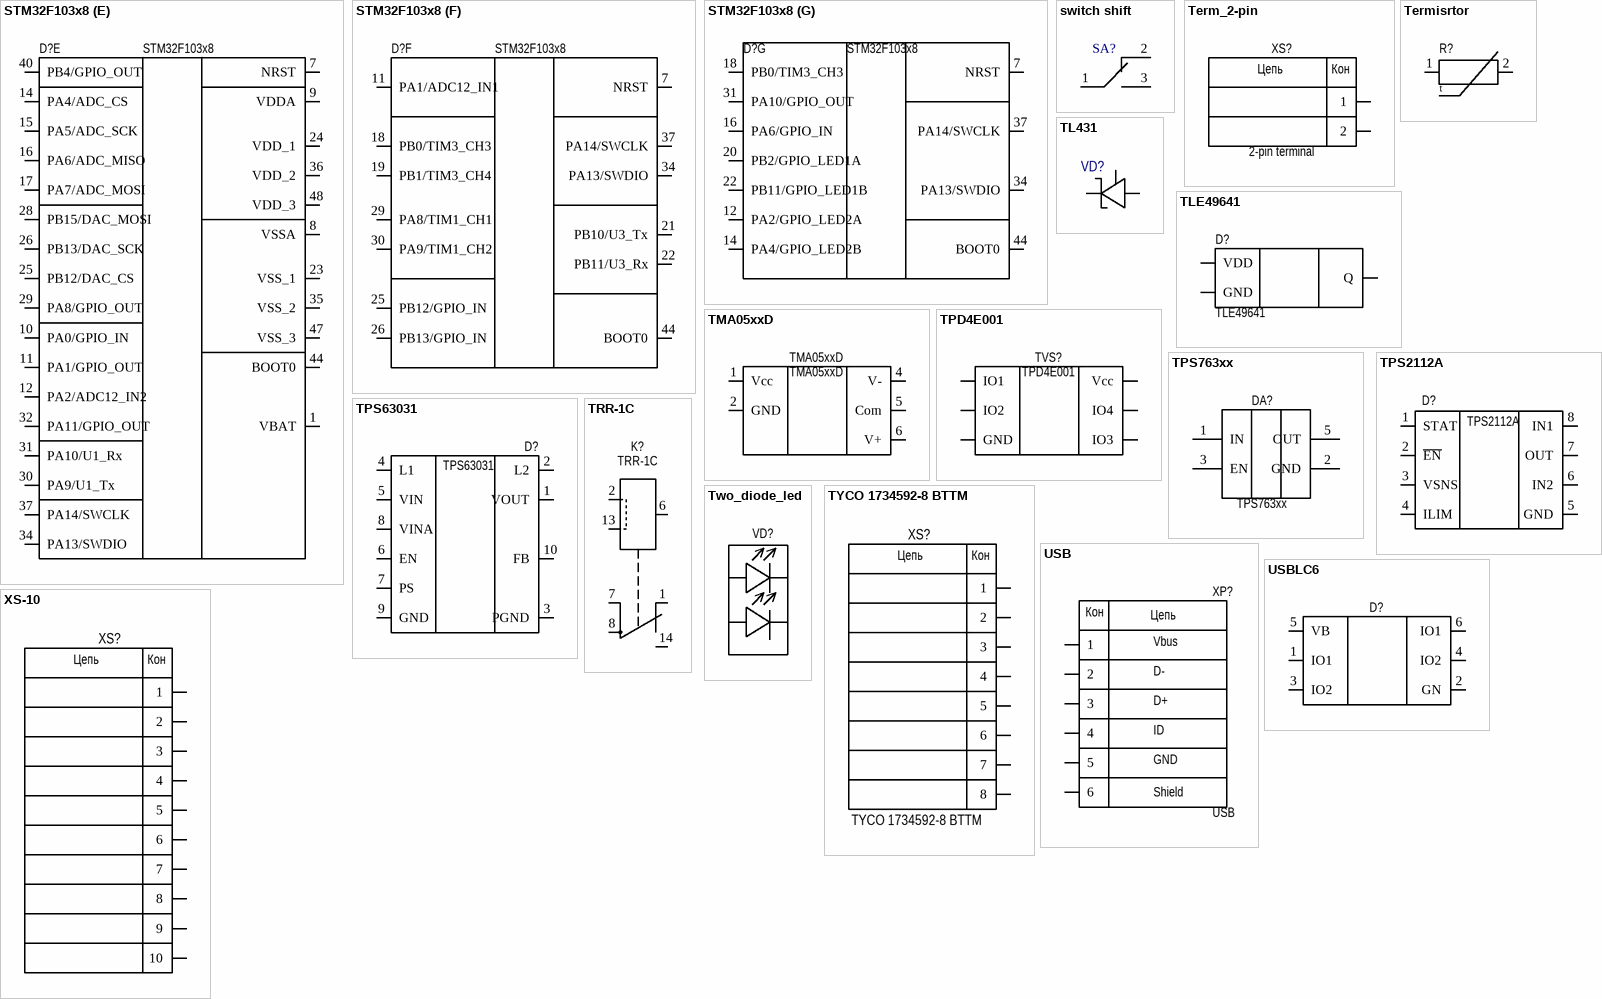
[diagram p6: symbols STM32F103x8 to XS-10]

## STM32F103x8
designator D?
footprint LQFP48
part A pins: 1 VBAT, 8 VSSA, 9 VDDA, 23 VSS_1, 24 VDD_1, 35 VSS_2, 36 VDD_2, 47 VSS_3, 48 VDD_3
part B pins: 5 PD0/OCS_IN, 6 PD1/OCS_OUT, 7 NRST, 11 PA1/Sound, 12 PA2/Vibro, 14 PA4/BTN0, 15 PA5/BTN1, 16 PA6/BTN2, 17 PA7/BTN3, 20 PB2, 21 PB10/U3_Tx, 22 PB11/U3_Rx, 25 PB12/SPI2_~{SS}, 26 PB13/SPI2_SCK, 27 PB14/SPI2_MISO, 28 PB15/SPI2_MOSI, 29 PA8/LCD_~{RST}, 30 PA9/LCD_D/~{C}, 31 PA10/LCD_~{CS}, 34 PA13/SWDIO, 37 PA14/SWCLK, 41 PB5/Led_Red, 42 PB6/Led_Green
part C pins: 5 PD0/OCS_IN, 6 PD1/OCS_OUT, 7 NRST, 10 PA0/ADC0, 11 PA1/ADC1, 13 PA3/BUTTON, 15 PA5/ADC_SCK, 16 PA6/ADC_MISO, 17 PA7/ADC_MOSI, 18 PB0/ADC_CS, 19 PB1/ADC_~{RDY}, 21 PB10/U3_Tx, 22 PB11/U3_Rx, 26 PB13/DAC_SCK, 28 PB15/DAC_MOSI, 29 PA8/DAC_CS, 30 PA9/U1_Tx, 31 PA10/U1_Rx, 32 PA11/EN, 34 PA13/SWDIO, 37 PA14/SWCLK, 40 PB4/Led1_Green, 41 PB5/Led1_Red, 42 PB6/Led2_Green, 43 PB7/Led2_Red, 44 BOOT0
part D pins: 5 PD0/OCS_IN, 6 PD1/OCS_OUT, 7 NRST, 11 PA1/Sound, 12 PA2/Vibro, 13 PA3/BTN4, 14 PA4/BTN0, 15 PA5/BTN1, 16 PA6/BTN2, 17 PA7/BTN3, 20 PB2, 21 PB10/U3_Tx, 22 PB11/U3_Rx, 25 PB12/SPI2_~{SS}, 26 PB13/SPI2_SCK, 27 PB14/SPI2_MISO, 28 PB15/SPI2_MOSI, 29 PA8/LCD_~{RST}, 30 PA9/LCD_D/~{C}, 31 PA10/LCD_~{CS}, 34 PA13/SWDIO, 37 PA14/SWCLK, 41 PB5/Led_Red, 42 PB6/Led_Green
part E pins: 1 VBAT, 7 NRST, 8 VSSA, 9 VDDA, 10 PA0/GPIO_IN, 11 PA1/GPIO_OUT, 12 PA2/ADC12_IN2, 14 PA4/ADC_CS, 15 PA5/ADC_SCK, 16 PA6/ADC_MISO, 17 PA7/ADC_MOSI, 23 VSS_1, 24 VDD_1, 25 PB12/DAC_CS, 26 PB13/DAC_SCK, 28 PB15/DAC_MOSI, 29 PA8/GPIO_OUT, 30 PA9/U1_Tx, 31 PA10/U1_Rx, 32 PA11/GPIO_OUT, 34 PA13/SWDIO, 35 VSS_2, 36 VDD_2, 37 PA14/SWCLK, 40 PB4/GPIO_OUT, 44 BOOT0, 47 VSS_3, 48 VDD_3
part F pins: 7 NRST, 11 PA1/ADC12_IN1, 18 PB0/TIM3_CH3, 19 PB1/TIM3_CH4, 21 PB10/U3_Tx, 22 PB11/U3_Rx, 25 PB12/GPIO_IN, 26 PB13/GPIO_IN, 29 PA8/TIM1_CH1, 30 PA9/TIM1_CH2, 34 PA13/SWDIO, 37 PA14/SWCLK, 44 BOOT0
part G pins: 7 NRST, 12 PA2/GPIO_LED2A, 14 PA4/GPIO_LED2B, 16 PA6/GPIO_IN, 18 PB0/TIM3_CH3, 20 PB2/GPIO_LED1A, 22 PB11/GPIO_LED1B, 31 PA10/GPIO_OUT, 34 PA13/SWDIO, 37 PA14/SWCLK, 44 BOOT0

## switch shift
designator SA?  (value not drawn)
footprint switch shift
pins: 1, 2, 3

## Term_2-pin
designator XS?, comment 2-pin terminal
footprint Term_2pin (2.54mm screw terminal)
pins: 1, 2
text: Цепь; Кон

## Termisrtor
designator R?  (value not drawn)
pins: 1, 2
text: t

## TL431
designator VD?  (value not drawn)
footprint SOT-23
pins: 1, 2, 3

## TLE49641
designator D?
footprint SOT-23
pins: 1 VDD, 2 Q, 3 GND

## TMA05xxD
designator TMA05xxD
DC-DC from single 5V to dual voltage
footprint TMAxxxxD (DC-DC to dual voltage supply)
pins: 1 Vcc, 2 GND, 4 V-, 5 Com, 6 V+

## TPD4E001
designator TVS?
single channel DAC
footprint SOT-23-6L
pins: 1 IO1, 2 IO2, 3 GND, 4 IO3, 5 IO4, 6 Vcc

## TPS763xx
designator DA?
Low-dropout voltage regulators
footprint SOT-23-5
pins: 1 IN, 2 GND, 3 EN, 5 OUT

## TPS2112A
designator D?
power switch
footprint TSSOP8 (Dc-dc L6920)
pins: 1 STAT, 2 ~{EN}, 3 VSNS, 4 ILIM, 5 GND, 6 IN2, 7 OUT, 8 IN1

## TPS63031
designator D?
DC-DC to 3.3V buck-boost
footprint WSON 10
footprint WSON 10 (DSK)
pins: 1 VOUT, 2 L2, 3 PGND, 4 L1, 5 VIN, 6 EN, 7 PS, 8 VINA, 9 GND, 10 FB

## TRR-1C
designator K?
magnetic relay (switch)
footprint SMD-DIP 14 (8) (SMD package 2.54mm pitch w/o middle pins)
pins: 1 NC, 2 Lp1, 6 Ln, 7 COM1, 8 COM2, 13 Lp2, 14 NO

## Two_diode_led
designator VD?  (value not drawn)
footprint Kingbright KAA-3528
pins: 1 C1, 2 A1, 3 C2, 4 2

## TYCO 1734592-8 BTTM
designator XS?
footprint FPC 8 pin
pins: 1, 2, 3, 4, 5, 6, 7, 8
text: Цепь; Кон

## USB
designator XP?
footprint micro-usb type B (surface mount with holes)
footprint mini USB (mini USB 2)
pins: 1, 2, 3, 4, 5, 6
text: Кон; Цепь; Vbus; D-; D+; ID; GND; Shield

## USBLC6
designator D?, comment USBLC6-2  (value not drawn)
Defence diodes for 2 lines
footprint SOT-23-6L
pins: 1 IO1, 2 GN, 3 IO2, 4 IO2, 5 VB, 6 IO1

## XS-10
designator XS?  (value not drawn)
footprint PLS 10
pins: 1, 2, 3, 4, 5, 6, 7, 8, 9, 10
text: Цепь; Кон